# EAGLE library part TPS63060 (library TPS63060)
The TPS6306x devices provide a power supply solution for products powered by either three-cell up to six-cell alkaline, NiCd or NiMH battery, or a one-cell or dual-cell Li-Ion or Li-polymer battery. Output currents can go as high as 2 A while using a dual-cell Li-Ion or Li-polymer battery, and discharge to 5 V or lower. The buck-boost converter is based on a fixed frequency, pulse width modulation (PWM) controller using synchronous rectification to obtain maximum efficiency. At low load currents, the converter enters power save mode to maintain high efficiency over a wide load current range. The power save mode can be disabled, forcing the converter to operate at a fixed switching frequency. The maximum average current in the switches is limited to a typical value of 2.25 A. The output voltage is programmable using an external resistor divider, or is fixed internally on the chip. The converter can be disabled to minimize battery drain. During shutdown, the load disconnects from the battery. The devices are available in a 3 mm × 3 mm, 10-pin, WSON (DSC) package.
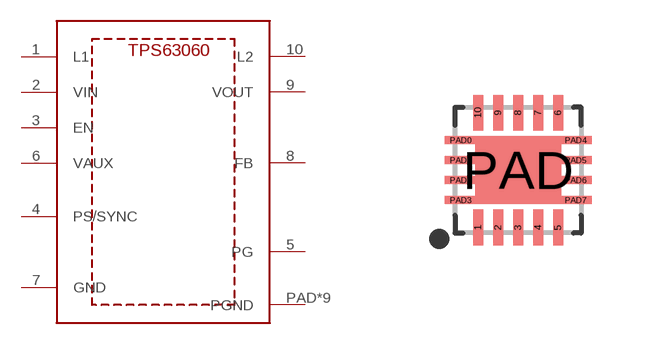
[diagram p0: symbol with the pads of PWSON10; footprint PWSON10]

Designator prefix -

## TPS63060 (PARTNO: TPS63060)  [PWSON10]
1  L1
2  VIN
3  EN
4  PS/SYNC
5  PG
6  VAUX
7  GND
8  FB
9  VOUT
10  L2
PAD  PGND
PAD0  PGND
PAD1  PGND
PAD2  PGND
PAD3  PGND
PAD4  PGND
PAD5  PGND
PAD6  PGND
PAD7  PGND

## Footprint PWSON10 (pad centres in mm)
18-QFN, 0.50 mm pitch, 3.00 X 3.00 X 0.80 mm body, 1.70 X 2.15 mm thermal pad 18-pin QFN package with 0.50 mm pitch with body size 3.00 X 3.00 X 0.80 mm and thermal pad size 1.70 X 2.15 mm
smd 0.249 x 0.896: 1 -1,-1.437; 2 -0.5,-1.437; 3 0,-1.437; 4 0.5,-1.437; 5 1,-1.437; 6 1,1.437; 7 0.5,1.437; 8 0,1.437; 9 -0.5,1.437; 10 -1,1.437
smd 2.15 x 1.7: PAD 0,0
smd 0.8 x 0.2: PAD0 -1.437,0.75; PAD1 -1.437,0.25; PAD2 -1.437,-0.25; PAD3 -1.437,-0.75; PAD4 1.437,0.75; PAD5 1.437,0.25; PAD6 1.437,-0.25; PAD7 1.437,-0.75